# EAGLE library part 665108131822 (library WR-WTB)
WR-WTB 1.00 mm SMT Male Horizontal Shrouded Material Properties Insulator Material LCP Insulator Flammability Rating UL94 V-0 Color Beige Contact Material Phosphor Bronze Contact Plating Tin Contact Type Stamped Certification UL Approval E323964 General Information Operating Temperature -25 °C up to +85 °C Compliance RoHS IR 1 A Working Voltage 50 V (AC) Withstanding Voltage [UL] 500 V (AC) Contact Resistance 20 mΩ RISO 100 MΩ Pitch 1 mm Gender Male Type Horizontal Packaging Properties Packaging Tape and Reel Details see: www.we-online.com/en/components/products/WTB_1_00_SMT_MALE_HORIZONTAL_SHROUDED_HEADER_6651XX131822 Updated by Ella 2025-03-06 2025 (C) Würth Elektronik
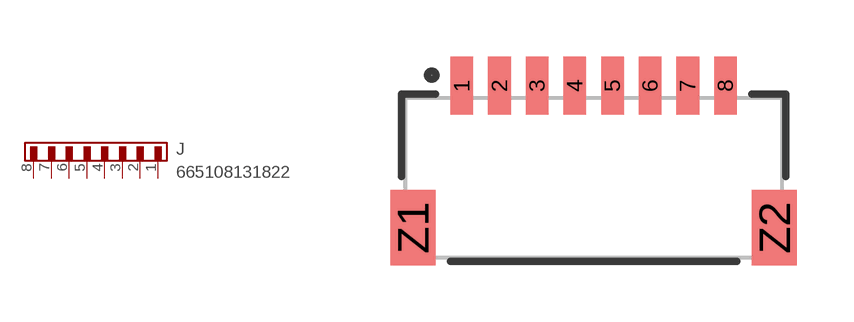
[diagram p105: symbol with the pads of 665108131822; footprint 665108131822]

Designator prefix J

## 665108131822 (CONTACT-RESISTANCE: 20mOhm; DATASHEET: https://www.we-online.com/redexpert/spec/665108131822?ae; GENDER: Male; IR: 1A; L: 10mm; MOUNT: SMT; PACKAGING: Tape and Reel; PART-NUMBER: 665108131822; PCB-CABLE-PANEL: PCB; PINS: 8; PITCH: 1mm; TYPE: Horizontal; VALUE: 665108131822; WORKING-VOLTAGE: 50V(AC))  [665108131822]
1  1  pas
2  2  pas
3  3  pas
4  4  pas
5  5  pas
6  6  pas
7  7  pas
8  8  pas

## Footprint 665108131822 (pad centres in mm)
WR-WTB 1.00 mm SMT Male Horizontal Shrouded, 8 pins
smd 0.6 x 1.55: 1 -3.5,1.92; 2 -2.5,1.92; 3 -1.5,1.92; 4 -0.5,1.92; 5 0.5,1.92; 6 1.5,1.92; 7 2.5,1.92; 8 3.5,1.92
smd 1.2 x 2: Z1 -4.8,-1.855; Z2 4.8,-1.855